# Altium footprint library eBug2014-CameraArray.PcbLib: 29 footprints (part 1 of 2)
Each footprint in its own frame and in the unit in brackets; x right, y up, seen from the top. Pads: shape width x height; smd on the part's side, far side on the other; paste and mask are expansions set on the pad; w line width, h text height; cw(c..) or ccw(c..) is an arc to the next point about the centre after c.
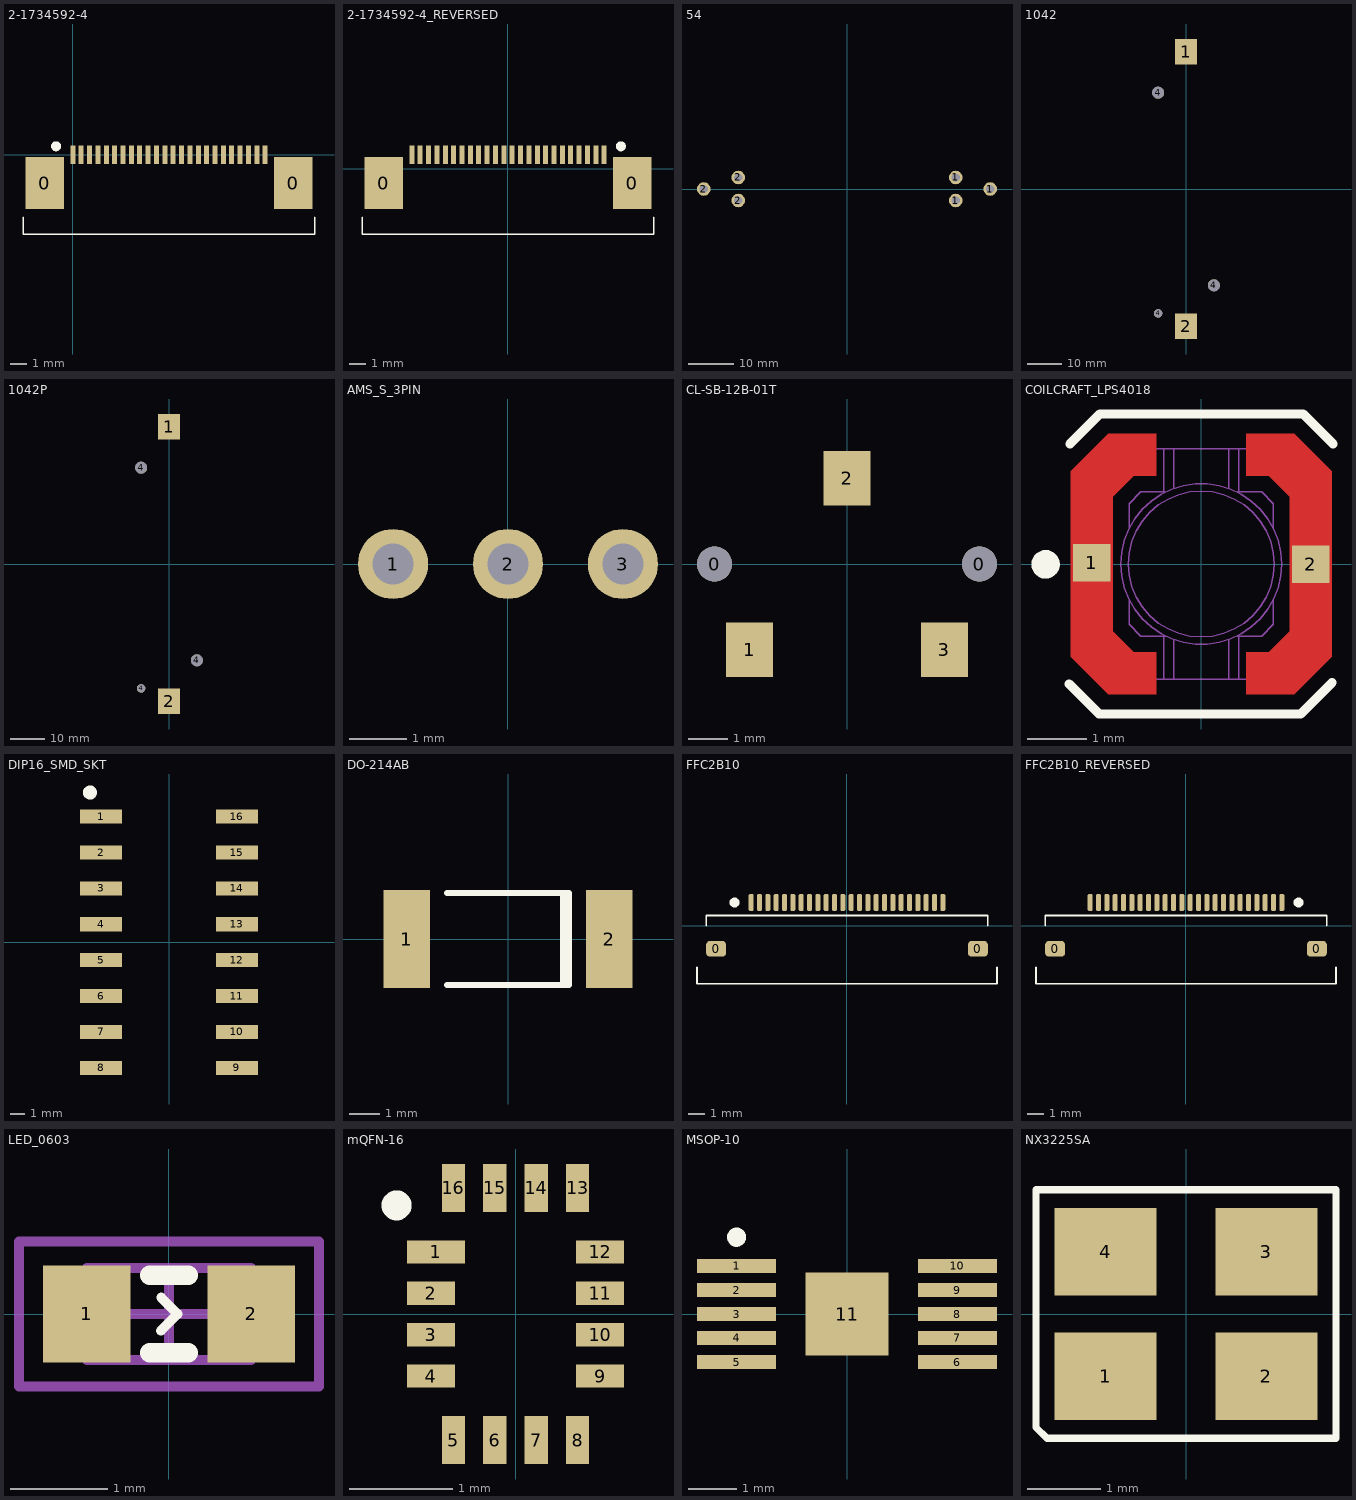
[diagram p0: the footprints below, top view; thin cyan lines are the x and y axes]

## 2-1734592-4 [mm]
pads (26):
  rect 2.3x3.1 smd: 0(-1.67,-1.7) 0(13.17,-1.7)
  rect 0.3x1.1 smd: 1(0,0) 2(0.5,0) 3(1,0) 4(1.5,0) 5(2,0) 6(2.5,0) 7(3,0) 8(3.5,0) 9(4,0) 10(4.5,0) 11(5,0) 12(5.5,0) 13(6,0) 14(6.5,0) 15(7,0) 16(7.5,0) 17(8,0) 18(8.5,0) 19(9,0) 20(9.5,0) 21(10,0) 22(10.5,0) 23(11,0) 24(11.5,0)
Top Overlay:
  circle w0.3: c-1,0.5 r0.15
  lines w0.1: -2.965,-3.76 -2.965,-4.76 14.465,-4.76 14.465,-3.76
3D body: height 2.06, standoff 0.01, extent -2.965,-4.76 14.465,0.35

## 2-1734592-4_REVERSED [mm]
pads (26):
  rect 2.3x3.1 smd: 0(-7.42,-0.85) 0(7.42,-0.85)
  rect 0.3x1.1 smd: 1(5.75,0.85) 2(5.25,0.85) 3(4.75,0.85) 4(4.25,0.85) 5(3.75,0.85) 6(3.25,0.85) 7(2.75,0.85) 8(2.25,0.85) 9(1.75,0.85) 10(1.25,0.85) 11(0.75,0.85) 12(0.25,0.85) 13(-0.25,0.85) 14(-0.75,0.85) 15(-1.25,0.85) 16(-1.75,0.85) 17(-2.25,0.85) 18(-2.75,0.85) 19(-3.25,0.85) 20(-3.75,0.85) 21(-4.25,0.85) 22(-4.75,0.85) 23(-5.25,0.85) 24(-5.75,0.85)
Top Overlay:
  circle w0.3: c6.75,1.35 r0.15
  lines w0.1: -8.715,-2.91 -8.715,-3.91 8.715,-3.91 8.715,-2.91
3D body: height 2.06, standoff 0.01, extent -8.715,-3.91 8.715,1.2

## 54 [mm]
pads (6):
  round 3 hole 1.829: 1(24,-2.54) 1(24,2.54) 1(31.62,0) 2(-31.62,0) 2(-24,-2.54) 2(-24,2.54)
3D body: height 18.32, standoff -3.04, extent -35.225,-9.051 -22.222,9.051
3D body: height 18.32, standoff -3.04, extent 22.223,-9.051 35.226,9.051

## 1042 [mm]
pads (5):
  rect 6.35x7.34 smd: 1(0,39.33) 2(0,-39.33)
  round 2.39 hole 2.39 paste+0 mask+0: 4(-8,-35.66)
  round 3.45 hole 3.45 paste+0 mask+0: 4(-8,27.6) 4(8,-27.6)
3D body: height 14.87, standoff -3.42, extent -10.325,-43.004 10.325,43

## 1042P [mm]
pads (5):
  rect 6.35x7.34 smd: 1(0,39.33) 2(0,-39.33)
  round 2.39 hole 2.39 paste+0 mask+0: 4(-8,-35.66)
  round 3.45 hole 3.45 paste+0 mask+0: 4(-8,27.6) 4(8,-27.6)
3D body: height 14.87, standoff -3.42, extent -10.325,-43.004 10.325,43

## AMS_S_3PIN [mil]
pads (3):
  round 48 hole 28: 1(-78.74,0) 2(0,0) 3(78.74,0)
3D body: height 78.74, standoff -39.37, extent -9.25,-8.27 9.25,8.27
3D body: height 181.1, standoff 39.37, extent -90.55,-69.69 90.55,32.68
3D body: height 78.74, standoff -39.37, extent 69.49,-8.27 88,8.27
3D body: height 78.74, standoff -39.37, extent -87.99,-8.26 -69.48,8.27

## CL-SB-12B-01T [mm]
pads (5):
  round 0.9 hole 0.9 paste+0 mask+0: 0(-3.4,0) 0(3.4,0)
  rect 1.2x1.4 smd: 1(-2.5,-2.2) 2(0,2.2) 3(2.5,-2.2)
3D body: height 5.51, standoff -0.79, extent -4.25,-2.5 4.25,2.5

## COILCRAFT_LPS4018 [mil]
height 70.87
pads (2):
  rect 25x25 smd: 1(-73,1) 2(73,0)
Top Layer:
  region: 30,87 62,87 87,62 87,-62 62,-87 30,-87 30,-59 45,-59 59,-45 59,45 45,59 30,59
  region: -30,87 -62,87 -87,62 -87,-62 -62,-87 -30,-87 -30,-59 -45,-59 -59,-45 -59,45 -45,59 -30,59
Top Overlay:
  circle w10: c-103.79,-0.21 r4.5
  lines w6: -88,-80 -68,-100 66.25,-100 87.25,-79 ; -87.5,80 -67.5,100 68,100 88,80
Top Solder:
  region: -30,87 -62,87 -87,62 -87,-62 -62,-87 -30,-87 -30,-59 -45,-59 -59,-45 -59,45 -45,59 -30,59
  region: 30,87 62,87 87,62 87,-62 62,-87 30,-87 30,-59 45,-59 59,-45 59,45 45,59 30,59
Mechanical 15:
  circle w1: c0,0 r48.62
  circle w1: c0,0 r53.6
  circle w1: c-66.3,0 r2.68
  lines w1: -76.7,0 -76.7,-51.35 -51.35,-76.7 0,-76.7 51.35,-76.7 76.7,-51.35 76.7,0 76.7,51.35 51.35,76.7 0,76.7 -51.35,76.7 -76.7,51.35 -76.7,0.65 ; -48.1,-23.4 -48.1,-40.3 -40.3,-48.1 -23.4,-48.1 ; -48.1,24.05 -48.1,40.3 -40.3,48.1 -24.05,48.1 ; -25.03,-76.7 -25.03,-47.45 ; -25.03,47.45 -25.03,76.7 ; -18.2,-76.7 -18.2,-50.7 ; -18.2,50.7 -18.2,76.7 ; 18.2,-76.7 18.2,-50.7 ; 18.2,50.7 18.2,76.7 ; 24.05,-48.1 40.3,-48.1 48.1,-40.3 48.1,-24.05 ; 24.05,48.1 40.3,48.1 48.1,40.3 48.1,24.05 ; 25.03,-76.7 25.03,-47.45 ; 25.03,47.45 25.03,76.7 ; -76.77,-51.18 -51.18,-76.77 0,-76.77 51.18,-76.77 76.77,-51.18 76.77,0 76.77,51.18 51.18,76.77 0,76.77 -51.18,76.77 -76.77,51.18 -76.77,0 -76.77,-51.18
3D body: height 70.87, standoff 0, extent -81.8,-83.77 79.85,77.88

## DIP16_SMD_SKT [mm]
pads (16):
  rect 3x1 smd: 1(-4.81,8.89) 2(-4.81,6.35) 3(-4.81,3.81) 4(-4.81,1.27) 5(-4.81,-1.27) 6(-4.81,-3.81) 7(-4.81,-6.35) 8(-4.81,-8.89) 9(4.81,-8.89) 10(4.81,-6.35) 11(4.81,-3.81) 12(4.81,-1.27) 13(4.81,1.27) 14(4.81,3.81) 15(4.81,6.35) 16(4.81,8.89)
Top Overlay:
  circle w0.5: c-5.6,10.6 r0.25
3D body: height 5.9, standoff 0, extent -5.05,-10.05 5.05,10.05

## DO-214AB [mm]
pads (2):
  rect 1.52x3.2 smd: 1(-3.305,0) 2(3.305,0)
Top Overlay:
  lines w0.2: -2,-1.5 2,-1.5 2,1.5 -2,1.5 ; 1.8,-1.5 1.8,1.5
3D body: height 2.62, standoff 0, extent -3.555,-3.11 3.555,3.11

## FFC2B10 [mm]
pads (26):
  rrect50% 1.2x0.95 smd: 0(-7.85,-1.39) 0(7.85,-1.39)
  rrect50% 0.3x1 smd: 1(-5.75,1.39) 2(-5.25,1.39) 3(-4.75,1.39) 4(-4.25,1.39) 5(-3.75,1.39) 6(-3.25,1.39) 7(-2.75,1.39) 8(-2.25,1.39) 9(-1.75,1.39) 10(-1.25,1.39) 11(-0.75,1.39) 12(-0.25,1.39) 13(0.25,1.39) 14(0.75,1.39) 15(1.25,1.39) 16(1.75,1.39) 17(2.25,1.39) 18(2.75,1.39) 19(3.25,1.39) 20(3.75,1.39) 21(4.25,1.39) 22(4.75,1.39) 23(5.25,1.39) 24(5.75,1.39)
Top Overlay:
  circle w0.3: c-6.75,1.39 r0.15
  lines w0.1: -9,-2.49 -9,-3.49 9,-3.49 9,-2.49 ; -8.45,0.01 -8.45,0.61 8.45,0.61 8.45,0.01

## FFC2B10_REVERSED [mm]
pads (26):
  rrect50% 1.2x0.95 smd: 0(-7.85,-1.39) 0(7.85,-1.39)
  rrect50% 0.3x1 smd: 1(5.75,1.39) 2(5.25,1.39) 3(4.75,1.39) 4(4.25,1.39) 5(3.75,1.39) 6(3.25,1.39) 7(2.75,1.39) 8(2.25,1.39) 9(1.75,1.39) 10(1.25,1.39) 11(0.75,1.39) 12(0.25,1.39) 13(-0.25,1.39) 14(-0.75,1.39) 15(-1.25,1.39) 16(-1.75,1.39) 17(-2.25,1.39) 18(-2.75,1.39) 19(-3.25,1.39) 20(-3.75,1.39) 21(-4.25,1.39) 22(-4.75,1.39) 23(-5.25,1.39) 24(-5.75,1.39)
Top Overlay:
  circle w0.3: c6.75,1.39 r0.15
  lines w0.1: -9,-2.49 -9,-3.49 9,-3.49 9,-2.49 ; -8.45,0.01 -8.45,0.61 8.45,0.61 8.45,0.01

## LED_0603 [mm]
pads (2):
  rect 0.9x1 smd: 1(-0.85,0) 2(0.85,0)
Top Overlay:
  lines w0.1: -0.083,-0.173 0.09,0 -0.081,0.171
  lines w0.2: -0.2,-0.4 0.2,-0.4 ; -0.2,0.4 0.2,0.4
Mechanical 13:
  lines w0.1: 0.85,-0.475 -0.85,-0.475 -0.85,0.475 0.85,0.475
Mechanical 15:
  lines w0.1: -0.475,0 0.475,0 ; 0,-0.475 0,0.475 ; -1.55,-0.75 -1.55,0.75 1.55,0.75 1.55,-0.75 -1.55,-0.75
3D body: height 0.6, standoff 0, extent -0.85,-0.475 0.85,0.475

## mQFN-16 [mm]
pads (16):
  rect 0.562x0.225 smd: 1(-0.769,0.6)
  rect 0.463x0.225 smd: 2(-0.818,0.2) 3(-0.818,-0.2) 4(-0.818,-0.6) 9(0.818,-0.6) 10(0.818,-0.2) 11(0.818,0.2) 12(0.818,0.6)
  rect 0.225x0.463 smd: 5(-0.6,-1.218) 6(-0.2,-1.218) 7(0.2,-1.218) 8(0.6,-1.218) 13(0.6,1.218) 14(0.2,1.218) 15(-0.2,1.218) 16(-0.6,1.218)
Top Overlay:
  circle w0.2: c-1.15,1.05 r0.045
3D body: height 0.75, standoff 0, extent -0.9,-1.3 0.9,1.3

## MSOP-10 [mm]
pads (11):
  rect 1.65x0.3 smd: 1(-2.3,1) 2(-2.3,0.5) 3(-2.3,0) 4(-2.3,-0.5) 5(-2.3,-1) 6(2.3,-1) 7(2.3,-0.5) 8(2.3,0) 9(2.3,0.5) 10(2.3,1)
  rect 1.73x1.73 smd: 11(0,0)
Top Overlay:
  circle w0.2: c-2.3,1.6 r0.1
3D body: height 1.01, standoff 0.15, extent -1.5,-1.5 1.5,1.5

## NX3225SA [mm]
height 0.55
pads (4):
  rect 1.4x1.2 smd: 1(-1.1,-0.85) 2(1.1,-0.85) 3(1.1,0.85) 4(-1.1,0.85)
Top Overlay:
  lines w0.1: -2.05,-1.55 -2.05,1.7 2.05,1.7 2.05,-1.7 -1.9,-1.7 -2.05,-1.55
3D body: height 0.55, standoff 0, extent -1.6,-1.25 1.6,1.25